# Altium schematic symbol library 2020-01-26_02-45-12.SchLib: 2 symbols
Pins are listed as number, name and electrical type; pins without a type are passive.

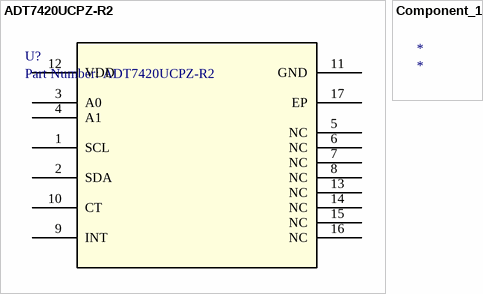
[diagram p0: symbols ADT7420UCPZ-R2 to Component_1]

## ADT7420UCPZ-R2
designator U?, comment Part Number: ADT7420UCPZ-R2
No Description Available; Vendor: Analog Devices Inc; Built_By: EMA_UL_Team; Manufacturer_Part_Number: ADT7420UCPZ-R2; Copyright: Copyright (C) 2018 Accelerated Designs. All rights reserved; RefDes: RefDes; Type: DEV; Value: Value
footprint CP_16_17
pins: 1 SCL, 2 SDA, 3 A0, 4 A1, 5 NC, 6 NC, 7 NC, 8 NC, 9 INT, 10 CT, 11 GND, 12 VDD, 13 NC, 14 NC, 15 NC, 16 NC, 17 EP

## Component_1
designator *